# Altium integrated library Mechanical.IntLib: 18 symbols
Pins are listed as number, name and electrical type; pins without a type are passive.

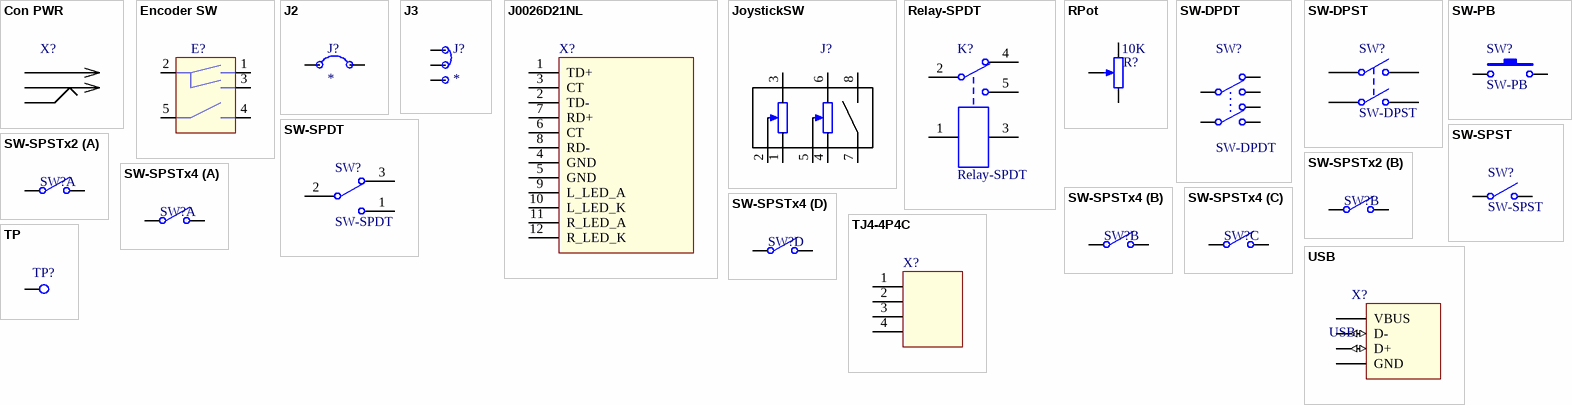
[diagram p0: symbols Con PWR to USB]

## Con PWR
designator X?  (value not drawn)
Power connector
footprint PWR2.5 (Power socket 2.5)
pins: 1, 2, 3

## Encoder SW
designator E?  (value not drawn)
Mechanical encoder with switch; Sim Note: Enter the Resistance value and the set point into parameter fields.; Set Position: 0.5; Published: 8-Jun-2000; LatestRevisionDate: 17-Jul-2002; LatestRevisionNote: Re-released for DXP Platform.; PackageReference: VR5; Publisher: Altium Limited
footprint PEC12 (Incremental encoder with switch)
pins: 1, 2, 3, 4, 5
1 alternate drawing of the same symbol

## J2
designator J?
Jumper 1 pair
footprint J2_SMT_50 (Jumper 2 SMT 50 mil)
footprint J2_SMT_60 (Jumper 2 SMT 60 mil)
footprint J2_THT_100 (Jumper 2 THT 100 mil base)
pins: 1, 2

## J3
designator J?
Jumper 1:2
footprint J3_SMT_50 (Jumper 3 SMT 50 mil)
footprint J3_SMT_60 (Jumper 3 SMT 60 mil)
footprint J3_THT_100 (Jumper 3 THT 100 mil base)
pins: 1, 2, 3

## J0026D21NL
designator X?  (value not drawn)
RJ45 with magnetics and LEDs
footprint J0026D21NL (Ethernet twisted pair connector with magnetics and leds)
pins: 1 TD+, 2 TD-, 3 CT, 4 GND, 5 GND, 6 CT, 7 RD+, 8 RD-, 9 L_LED_A, 10 L_LED_K, 11 R_LED_A, 12 R_LED_K

## JoystickSW
designator J?  (value not drawn)
2-axial potentiometr with switch; Sim Note: Enter the Resistance value and the set point into parameter fields.; Set Position: 0.5; Value: 10K; Published: 8-Jun-2000; LatestRevisionDate: 17-Jul-2002; LatestRevisionNote: Re-released for DXP Platform.; PackageReference: VR5; Publisher: Altium Limited
footprint JOYSTICK_SW (JOYSTICK)
pins: 1, 2, 3, 4, 5, 6, 7, 8
1 alternate drawing of the same symbol

## Relay-SPDT
designator K?
Single-Pole Dual-Throw Relay; Published: 24-Mar-1999; LatestRevisionDate: 17-Jul-2002; LatestRevisionNote: Re-released for DXP Platform.; PackageReference: MODULE5B; Publisher: Altium Limited
footprint Relay-SPDT-20x15x17 (Single Pole Double Throw Relay)
pins: 1, 2, 3, 4, 5

## RPot
designator R?  value 10K  (hidden comment: RPot)
Potentiometer; Sim Note: Enter the Resistance value and the set point into parameter fields.; Set Position: 0.5; Published: 8-Jun-2000; LatestRevisionDate: 17-Jul-2002; LatestRevisionNote: Re-released for DXP Platform.; PackageReference: VR5; Publisher: Altium Limited
footprint VR5 (Variable Resistor, Thru-Hole; 3 Leads)
simulation model POT (Potentiometer)
footprint PV32H (DxH (6.6x4.6)mm)
footprint VR4 (Variable Resistor, Thru-Hole; 3 Leads)
footprint VR3 (Variable Resistor, Thru-Hole; 3 Leads)
footprint RPotExt (External potentiometr)
pins: 1 TOP, 2 TAP, 3 BOT
1 alternate drawing of the same symbol

## SW-DPDT
designator SW?
Double-Pole, Double-Throw Switch; Published: 24-Mar-1999; LatestRevisionDate: 17-Jul-2002; LatestRevisionNote: Re-released for DXP Platform.; PackageReference: DPDT-6; Publisher: Altium Limited
footprint SW SS-2205 (SS-2205 Dual Pairs Dual Throws)
pins: 1, 2, 3, 4, 5, 6

## SW-DPST
designator SW?
Double-Pole, Single-Throw Switch; Published: 24-Mar-1999; LatestRevisionDate: 17-Jul-2002; LatestRevisionNote: Re-released for DXP Platform.; PackageReference: DPST-4; Publisher: Altium Limited
pins: 1 COMMON1, 2 NO1, 3 COMMON2, 4 NO2

## SW-PB
designator SW?
Switch
footprint SW 1P4C 200x500mil (1 contact group 4 pads HTH 200x500mil)
footprint SW 1P4C 200x300mil (1 contact group 4 pads HTH 200x300mil)
pins: 1, 2

## SW-SPDT
designator SW?
SPDT Subminiature Toggle Switch, Right Angle Mounting, Vertical Actuation
footprint TL36WW15050 (SPDT Subminiature Toggle Switch, Right Angle Mounting, Vertical Actuation)
pins: 1, 2, 3

## SW-SPST
designator SW?
Single-Pole, Single-Throw Switch
footprint SW 1P4C 200x500mil (1 contact group 4 pads HTH 200x500mil)
footprint SW 1P4C 200x300mil (1 contact group 4 pads HTH 200x300mil)
pins: 1 COMMON, 2 NO

## SW-SPSTx2
designator SW?  (value not drawn)
Single-Pole, Single-Throw Switch x2
footprint DIP1x2 (DIP switch 1 pole 2 pairs)
part A pins: 1 COMMON, 2 NO
part B pins: 3 COMMON, 4 NO

## SW-SPSTx4
designator SW?  (value not drawn)
Single-Pole, Single-Throw Switch x2
footprint DIP1x4 (DIP switch 1 pole 4 pairs)
part A pins: 1 COMMON, 2 NO
part B pins: 3 COMMON, 4 NO
part C pins: 5 COMMON, 6 NO
part D pins: 7 COMMON, 8 NO

## TJ4-4P4C
designator X?  (value not drawn)
4 positions 4 conductors modular connector
footprint Modular 4P4C (Modular jack 4P4C)
pins: 1, 2, 3, 4

## TP
designator TP?  (value not drawn)  (no BOM)
Test point
footprint TP_SMT (Test point SMT)
footprint TP_TH (Test point THT)
pins: 1

## USB
designator X?
footprint USB2.5-2H4D (Connector; USB1.1, Type B, Thru-Hole; 4 Position; Right Angle)
pins: 1 VBUS (power), 2 D- (io), 3 D+ (io), 4 GND (power)